# Altium footprint library Footprints.PcbLib: 11 footprints
Each footprint in its own frame and in the unit in brackets; x right, y up, seen from the top. Pads: shape width x height; smd on the part's side, far side on the other; paste and mask are expansions set on the pad; w line width, h text height; cw(c..) or ccw(c..) is an arc to the next point about the centre after c.
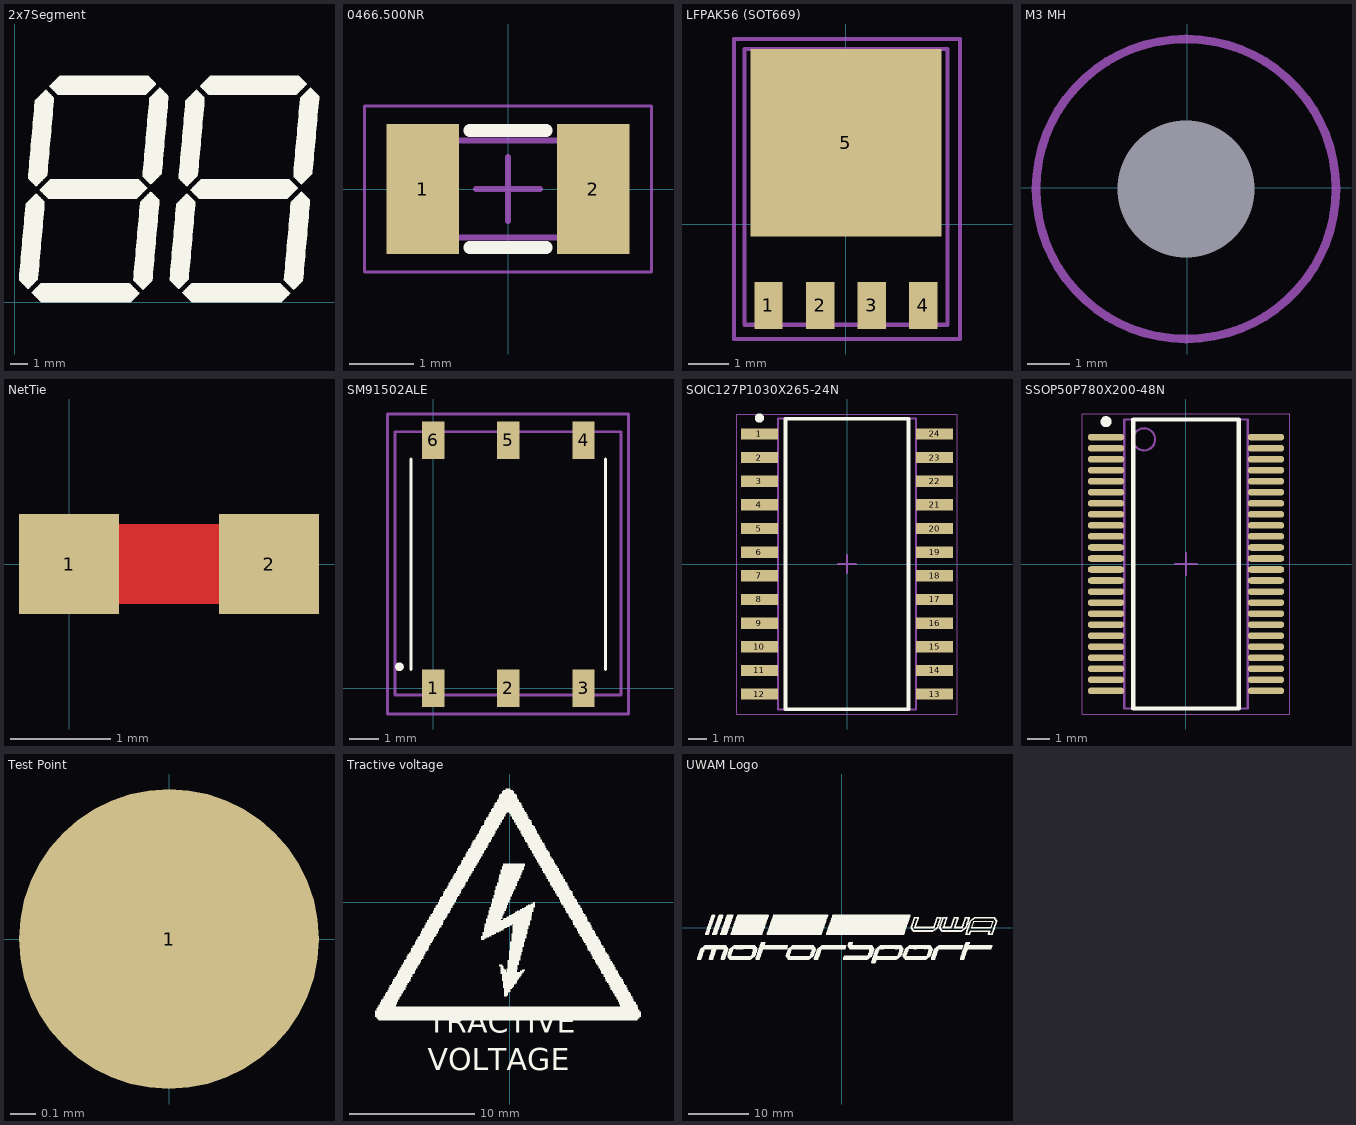
[diagram p0: the footprints below, top view; thin cyan lines are the x and y axes]

## 2x7Segment [mm] "2x7Segment"
Top Overlay:
  drawing of 14 lines, arcs and shapes, not listed

## 0466.500NR [mm] "500mA Fast Acting Fuse"
height 0.59
pads (2):
  rect 1.14x2.03 smd: 1(-1.335,0) 2(1.335,0)
Top Overlay:
  lines w0.2: -0.6,-0.915 0.6,-0.915 ; -0.6,0.915 0.6,0.915
Top Courtyard:
  lines w0.05: -2.25,-1.3 2.25,-1.3 2.25,1.3 -2.25,1.3 -2.25,-1.3
  lines w0.1: -0.5,0 0.5,0 ; 0,-0.5 0,0.5
Top Assembly:
  lines w0.1: -1.59,-0.76 1.59,-0.76 1.59,0.76 -1.59,0.76 -1.59,-0.76
3D body "0466.500NR.step": height 0.58, standoff 0, extent -1.59,-0.76 1.59,0.76

## LFPAK56 (SOT669) [mm] "4 Lead SOT"
pads (5):
  rect 0.7x1.15 smd: 1(-1.905,-2) 2(-0.635,-2) 3(0.635,-2) 4(1.905,-2)
  rect 4.7x4.6 smd: 5(0,2)
Top Courtyard:
  lines w0.1: -2.75,-2.825 2.8,-2.825 2.8,4.55 -2.75,4.55 -2.75,-2.825
Top Assembly:
  lines w0.1: -2.5,-2.475 -2.5,4.3 2.5,4.3 2.5,-2.475 -2.5,-2.475
3D body "User Library-SOT669.step": height 1.21, standoff 0.01, extent -2.5,-2.467 2.5,4.3

## M3 MH [mm] "M3 Mounting Hole"
pads (1):
  round 0 hole 3.2 unplated: 1(-0.025,-0.025)
Mechanical 1:
  circle w0.2: c-0.025,-0.025 r3.5

## NetTie [mm] "NetTie"
pads (2):
  rect 1x1 smd: 1(0,0) 2(2,0)
Top Layer:
  rectangle: 0.4,-0.4 1.6,0.4

## SM91502ALE [mm]
pads (7):
  rect 0.76x1.27 smd: 1(0,0) 2(2.54,0) 3(5.08,0) 4(5.08,8.38) 5(2.54,8.38) 6(0,8.38)
  round 0.3 on Top Overlay: ""(-1.15,0.725)
Top Overlay:
  lines w0.1: -0.75,0.625 -0.75,7.75 ; 5.83,0.625 5.83,7.75
Top Courtyard:
  lines w0.1: -1.55,-0.875 -1.55,9.275 6.6,9.275 6.6,-0.875 -1.55,-0.875
Top Assembly:
  lines w0.1: -1.3,-0.225 -1.3,8.675 6.35,8.675 6.35,-0.225 -1.3,-0.225
3D body "SM91502ALE.STP": height 5.73, standoff 0.01, extent -1.285,-0.22 6.335,8.67

## SOIC127P1030X265-24N [mm] "SOIC, 24-Leads, Body 15.40x7.50mm, Pitch 1.27mm, IPC Medium Density"
height 2.65
pads (24):
  rect 2x0.6 smd: 1(-4.7,6.985) 2(-4.7,5.715) 3(-4.7,4.445) 4(-4.7,3.175) 5(-4.7,1.905) 6(-4.7,0.635) 7(-4.7,-0.635) 8(-4.7,-1.905) 9(-4.7,-3.175) 10(-4.7,-4.445) 11(-4.7,-5.715) 12(-4.7,-6.985) 13(4.7,-6.985) 14(4.7,-5.715) 15(4.7,-4.445) 16(4.7,-3.175) 17(4.7,-1.905) 18(4.7,-0.635) 19(4.7,0.635) 20(4.7,1.905) 21(4.7,3.175) 22(4.7,4.445) 23(4.7,5.715) 24(4.7,6.985)
Top Overlay:
  circle w0.25: c-4.7,7.835 r0.125
  lines w0.2: -3.3,-7.8 3.3,-7.8 3.3,7.8 -3.3,7.8 -3.3,-7.8
Top Courtyard:
  lines w0.05: -5.925,-8.05 5.925,-8.05 5.925,8.05 -5.925,8.05 -5.925,-8.05
  lines w0.1: -0.5,0 0.5,0 ; 0,-0.5 0,0.5
Top Assembly:
  lines w0.1: -3.7,-7.8 3.7,-7.8 3.7,7.8 -3.7,7.8 -3.7,-7.8
3D body "SOIC127P1030X265-24N.step": height 2.65, standoff 0, extent -5.15,-7.8 5.15,7.8

## SSOP50P780X200-48N [mm] "SSOP, 48-Leads, Body 12.80x5.30mm, Pitch 0.50mm, IPC Medium Density"
height 2
pads (48):
  oval 1.65x0.3 smd: 1(-3.625,5.75) 2(-3.625,5.25) 3(-3.625,4.75) 4(-3.625,4.25) 5(-3.625,3.75) 6(-3.625,3.25) 7(-3.625,2.75) 8(-3.625,2.25) 9(-3.625,1.75) 10(-3.625,1.25) 11(-3.625,0.75) 12(-3.625,0.25) 13(-3.625,-0.25) 14(-3.625,-0.75) 15(-3.625,-1.25) 16(-3.625,-1.75) 17(-3.625,-2.25) 18(-3.625,-2.75) 19(-3.625,-3.25) 20(-3.625,-3.75) 21(-3.625,-4.25) 22(-3.625,-4.75) 23(-3.625,-5.25) 24(-3.625,-5.75) 25(3.625,-5.75) 26(3.625,-5.25) 27(3.625,-4.75) 28(3.625,-4.25) 29(3.625,-3.75) 30(3.625,-3.25) 31(3.625,-2.75) 32(3.625,-2.25) 33(3.625,-1.75) 34(3.625,-1.25) 35(3.625,-0.75) 36(3.625,-0.25) 37(3.625,0.25) 38(3.625,0.75) 39(3.625,1.25) 40(3.625,1.75) 41(3.625,2.25) 42(3.625,2.75) 43(3.625,3.25) 44(3.625,3.75) 45(3.625,4.25) 46(3.625,4.75) 47(3.625,5.25) 48(3.625,5.75)
Top Overlay:
  circle w0.25: c-3.625,6.45 r0.125
  lines w0.2: -2.4,-6.55 2.4,-6.55 2.4,6.55 -2.4,6.55 -2.4,-6.55
Top Courtyard:
  lines w0.05: -4.7,-6.8 4.7,-6.8 4.7,6.8 -4.7,6.8 -4.7,-6.8
  lines w0.1: -0.5,0 0.5,0 ; 0,-0.5 0,0.5
Top Assembly:
  circle w0.1: c-1.9,5.65 r0.5
  lines w0.1: -2.8,-6.55 -2.8,6.55 2.8,6.55 2.8,-6.55 -2.8,-6.55
3D body "SSOP50P780X200-48N.step": height 2, standoff 0, extent -3.9,-6.55 3.9,6.55

## Test Point [mm] "1.2mm Test point"
pads (1):
  round 1.2 smd: 1(0,0)

## Tractive voltage [mm]
Top Overlay:
  drawing of 2 lines, arcs and shapes, not listed
  text "TRACTIVE / VOLTAGE" at -6.6,-14.05 h3

## UWAM Logo [mm] "UWAM Logo"
Top Overlay:
  drawing of 19 lines, arcs and shapes, not listed